# Altium footprint library A28_Package.PcbLib: 1 footprints
Each footprint in its own frame and in the unit in brackets; x right, y up, seen from the top. Pads: shape width x height; smd on the part's side, far side on the other; paste and mask are expansions set on the pad; w line width, h text height; cw(c..) or ccw(c..) is an arc to the next point about the centre after c.
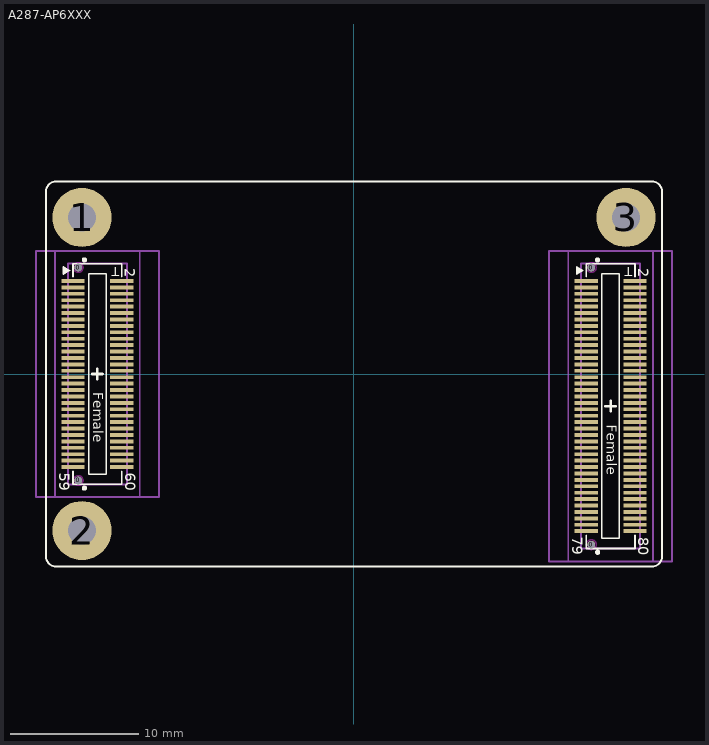
[diagram p0: the footprint, top view; thin cyan lines are the x and y axes]

## A287-AP6XXX [mm] "Rev.D"
height 2.3
pads (147):
  round 0.6 hole 0.6 unplated mask+0.254: 0(-21.5,-8.3) 0(-21.5,8.3) 0(18.5,-13.3) 0(18.5,8.3)
  round 4.6 hole 2.2: 1(-21.2,12.2) 2(-21.2,-12.2) 3(21.2,12.2)
  rect 1.8x0.3 smd mask+0.051: A1(18.1,7.25) A2(21.9,7.25) A3(18.1,6.75) A4(21.9,6.75) A5(18.1,6.25) A6(21.9,6.25) A7(18.1,5.75) A8(21.9,5.75) A9(18.1,5.25) A10(21.9,5.25) A11(18.1,4.75) A12(21.9,4.75) A13(18.1,4.25) A14(21.9,4.25) A15(18.1,3.75) A16(21.9,3.75) A17(18.1,3.25) A18(21.9,3.25) A19(18.1,2.75) A20(21.9,2.75) A21(18.1,2.25) A22(21.9,2.25) A23(18.1,1.75) A24(21.9,1.75) A25(18.1,1.25) A26(21.9,1.25) A27(18.1,0.75) A28(21.9,0.75) A29(18.1,0.25) A30(21.9,0.25) A31(18.1,-0.25) A32(21.9,-0.25) A33(18.1,-0.75) A34(21.9,-0.75) A35(18.1,-1.25) A36(21.9,-1.25) A37(18.1,-1.75) A38(21.9,-1.75) A39(18.1,-2.25) A40(21.9,-2.25) A41(18.1,-2.75) A42(21.9,-2.75) A43(18.1,-3.25) A44(21.9,-3.25) A45(18.1,-3.75) A46(21.9,-3.75) A47(18.1,-4.25) A48(21.9,-4.25) A49(18.1,-4.75) A50(21.9,-4.75) A51(18.1,-5.25) A52(21.9,-5.25) A53(18.1,-5.75) A54(21.9,-5.75) A55(18.1,-6.25) A56(21.9,-6.25) A57(18.1,-6.75) A58(21.9,-6.75) A59(18.1,-7.25) A60(21.9,-7.25) A61(18.1,-7.75) A62(21.9,-7.75) A63(18.1,-8.25) A64(21.9,-8.25) A65(18.1,-8.75) A66(21.9,-8.75) A67(18.1,-9.25) A68(21.9,-9.25) A69(18.1,-9.75) A70(21.9,-9.75) A71(18.1,-10.25) A72(21.9,-10.25) A73(18.1,-10.75) A74(21.9,-10.75) A75(18.1,-11.25) A76(21.9,-11.25) A77(18.1,-11.75) A78(21.9,-11.75) A79(18.1,-12.25) A80(21.9,-12.25) B1(-21.9,7.25) B2(-18.1,7.25) B3(-21.9,6.75) B4(-18.1,6.75) B5(-21.9,6.25) B6(-18.1,6.25) B7(-21.9,5.75) B8(-18.1,5.75) B9(-21.9,5.25) B10(-18.1,5.25) B11(-21.9,4.75) B12(-18.1,4.75) B13(-21.9,4.25) B14(-18.1,4.25) B15(-21.9,3.75) B16(-18.1,3.75) B17(-21.9,3.25) B18(-18.1,3.25) B19(-21.9,2.75) B20(-18.1,2.75) B21(-21.9,2.25) B22(-18.1,2.25) B23(-21.9,1.75) B24(-18.1,1.75) B25(-21.9,1.25) B26(-18.1,1.25) B27(-21.9,0.75) B28(-18.1,0.75) B29(-21.9,0.25) B30(-18.1,0.25) B31(-21.9,-0.25) B32(-18.1,-0.25) B33(-21.9,-0.75) B34(-18.1,-0.75) B35(-21.9,-1.25) B36(-18.1,-1.25) B37(-21.9,-1.75) B38(-18.1,-1.75) B39(-21.9,-2.25) B40(-18.1,-2.25) B41(-21.9,-2.75) B42(-18.1,-2.75) B43(-21.9,-3.25) B44(-18.1,-3.25) B45(-21.9,-3.75) B46(-18.1,-3.75) B47(-21.9,-4.25) B48(-18.1,-4.25) B49(-21.9,-4.75) B50(-18.1,-4.75) B51(-21.9,-5.25) B52(-18.1,-5.25) B53(-21.9,-5.75) B54(-18.1,-5.75) B55(-21.9,-6.25) B56(-18.1,-6.25) B57(-21.9,-6.75) B58(-18.1,-6.75) B59(-21.9,-7.25) B60(-18.1,-7.25)
Top Overlay:
  circle w0.203: c18.984,8.89 r0.102
  circle w0.203: c18.984,-13.89 r0.102
  circle w0.203: c-21.016,8.89 r0.102
  circle w0.203: c-21.016,-8.89 r0.102
  region: 17.841,8.066 17.358,7.783 17.358,8.35
  region: -22.159,8.066 -22.642,7.783 -22.642,8.35
  lines w0.127: -21.9,-7.584 -21.9,-8.6 -18.1,-8.6 -18.1,-7.584 ; -21.9,7.584 -21.9,8.6 -18.1,8.6 -18.1,7.584 ; 18.1,-12.584 18.1,-13.6 21.9,-13.6 21.9,-12.584 ; 18.1,7.584 18.1,8.6 21.9,8.6 21.9,7.584 ; -22.642,7.783 -22.159,8.066 -22.642,8.35 -22.642,7.783 ; -20.686,-7.8 -20.686,7.8 -19.314,7.8 -19.314,-7.8 -20.686,-7.8 ; 17.358,7.783 17.841,8.066 17.358,8.35 17.358,7.783 ; 19.314,-12.8 19.314,7.8 20.686,7.8 20.686,-12.8 19.314,-12.8
  lines w0.152: -24,-14.238 ccw(c-23.238,-14.238) -23.238,-15 23.238,-15 ccw(c23.238,-14.238) 24,-14.238 24,14.238 ccw(c23.238,14.238) 23.238,15 -23.238,15 ccw(c-23.238,14.238) -24,14.238 -24,-14.238
  lines w0.203: -20.4,0 -20,0 ; -20,-0.4 -20,0 ; -20,0.4 -20,0 ; -19.6,0 -20,0 ; 19.6,-2.5 20,-2.5 ; 20,-2.9 20,-2.5 ; 20,-2.1 20,-2.5 ; 20.4,-2.5 20,-2.5
  text "T" at 21.116,8.331 h0.71
  text "80" at 22.159,-12.711 h0.81
  text "79" at 17.028,-12.685 h0.81
  text "2" at 22.159,8.244 h0.81
  text "Female" at 19.695,-3.94 h0.76
  text "Female" at -20.305,-1.44 h0.76
  text "2" at -17.866,8.244 h0.81
  text "60" at -17.841,-7.711 h0.81
  text "59" at -22.972,-7.685 h0.81
  text "T" at -18.884,8.331 h0.71
Keep-Out Layer:
  circle w0.127: c18.5,8.3 r0.38
  circle w0.127: c18.5,-13.3 r0.38
  circle w0.127: c-21.5,-8.3 r0.38
  circle w0.127: c-21.5,8.3 r0.38
Mechanical 13:
  lines w0.152: -22.3,-8.6 -22.3,8.6 -17.7,8.6 -17.7,-8.6 -22.3,-8.6 ; 17.7,-13.6 22.3,-13.6 22.3,8.6 17.7,8.6 17.7,-13.6
Mechanical 15:
  lines w0.127: -20.432,0 -20,0 ; -20,-0.432 -20,0 ; -20,0.432 -20,0 ; -19.568,0 -20,0 ; 19.568,-2.5 20,-2.5 ; 20,-2.932 20,-2.5 ; 20,-2.068 20,-2.5 ; 20.432,-2.5 20,-2.5
  lines w0.152: -24.8,-9.6 -15.2,-9.6 ; -24.799,-9.6 -24.799,9.6 -15.199,9.6 -15.199,-9.6 ; -23.3,-9.6 -23.3,9.6 ; -16.7,-9.6 -16.7,9.6 ; 16.7,-14.6 16.7,9.6 ; 23.3,-14.6 23.3,9.6 ; 15.2,-14.6 15.2,9.6 24.8,9.6 24.8,-14.6 15.2,-14.6
  text "0.6mm机械孔位公差要求为（-0.05,+0.05）mm" at -14.351,-6.096 h1.52
  text "0.6mm机械孔径公差要求为（0,+0.05）mm" at -13.081,-4.064 h1.52
  text "0.6mm机械孔径公差要求为（0,+0.05）mm" at 20.33,-10.806 h1.02
  text "元件禁布区" at 24.547,-5.853 h1.52
  text "元件禁布区" at 16.469,-5.853 h1.52
  text "元件禁布区" at -15.453,-3.353 h1.52
  text "元件禁布区" at -23.531,-3.353 h1.52
  text "0.6mm机械孔径公差要求为（0,+0.05）mm" at -19.695,-8.611 h1.02
  text "A287-AP6XXX Rev.D" at -10.95,-0.825 h1.52